# Altium schematic symbol library ADS8342IPFBT.SchLib: 1 symbol
Pins are listed as number, name and electrical type; pins without a type are passive.

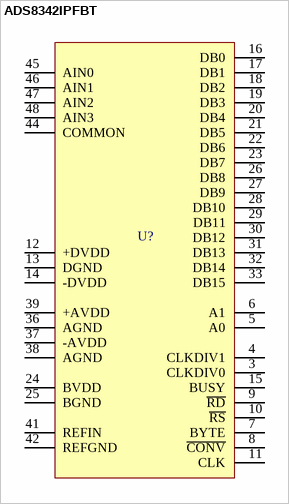
[diagram p0: symbol ADS8342IPFBT]

## ADS8342IPFBT
designator U?
4-channel, 16-bit Analog-to-Digital  converter (ADC)
pins: 3 CLKDIV0, 4 CLKDIV1, 5 A0, 6 A1, 7 BYTE, 8 ~{CONV}, 9 ~{RD}, 10 ~{RS}, 11 CLK, 12 +DVDD, 13 DGND, 14 -DVDD, 15 BUSY, 16 DB0, 17 DB1, 18 DB2, 19 DB3, 20 DB4, 21 DB5, 22 DB6, 23 DB7, 24 BVDD, 25 BGND, 26 DB8, 27 DB9, 28 DB10, 29 DB11, 30 DB12, 31 DB13, 32 DB14, 33 DB15, 36 AGND, 37 -AVDD, 38 AGND, 39 +AVDD, 41 REFIN, 42 REFGND, 44 COMMON, 45 AIN0, 46 AIN1, 47 AIN2, 48 AIN3